# Altium integrated library Кондер 10мкФ.IntLib: 1 symbol
Pins are listed as number, name and electrical type; pins without a type are passive.

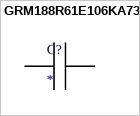
[diagram p0: symbol GRM188R61E106KA73D]

## GRM188R61E106KA73D
designator C?
SMD capacitor X5R(EIA) with capacitance 10uF Tol.10%. Rated voltage 25Vdc 85C; Типоразмер: 0603; Емкость: 10 мкФ; Точность: 10%; Напряжение: 25 В; Т коэф. емкости: X5R
footprint CAPC1608X100N
pins: 1, 2